# Altium schematic symbol library ET60S-D05-3-08-D05-L-R1-S.SchLib: 1 symbol
Pins are listed as number, name and electrical type; pins without a type are passive.

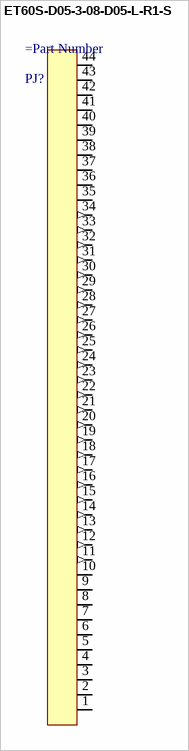
[diagram p0: symbol ET60S-D05-3-08-D05-L-R1-S]

## ET60S-D05-3-08-D05-L-R1-S
designator =Part Number, comment PJ?
=Description
pins: 1 (power), 2 (power), 3 (power), 4 (power), 5 (power), 6 (power), 7 (power), 8 (power), 9 (power), 10 (power), 11 (out), 12 (out), 13 (out), 14 (out), 15 (out), 16 (out), 17 (out), 18 (out), 19 (out), 20 (out), 21 (out), 22 (out), 23 (out), 24 (out), 25 (out), 26 (out), 27 (out), 28 (out), 29 (out), 30 (out), 31 (out), 32 (out), 33 (out), 34 (out), 35 (power), 36 (power), 37 (power), 38 (power), 39 (power), 40 (power), 41 (power), 42 (power), 43 (power), 44 (power)